# Altium footprint library esp32.PcbLib: 1 footprints
Each footprint in its own frame and in the unit in brackets; x right, y up, seen from the top. Pads: shape width x height; smd on the part's side, far side on the other; paste and mask are expansions set on the pad; w line width, h text height; cw(c..) or ccw(c..) is an arc to the next point about the centre after c.
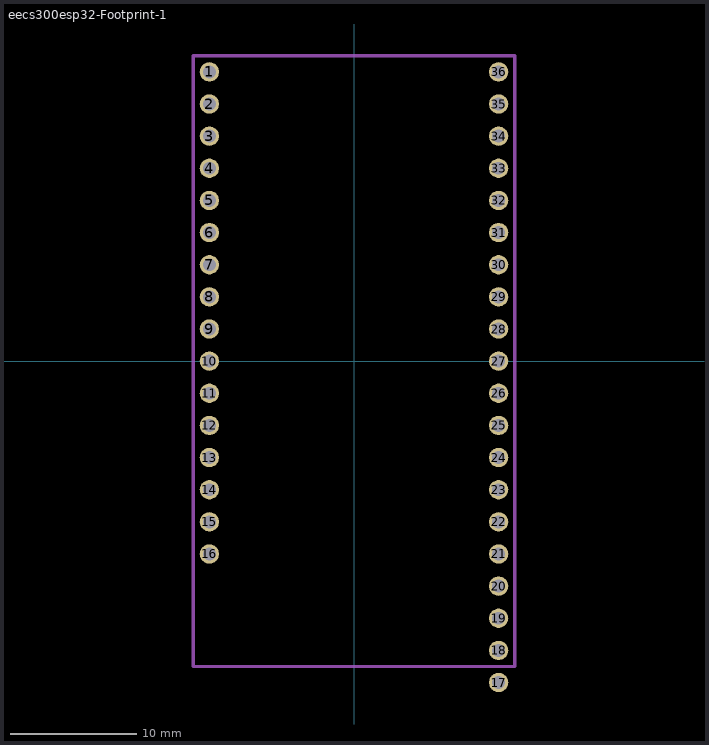
[diagram p0: the footprint, top view; thin cyan lines are the x and y axes]

## eecs300esp32-Footprint-1 [mil]
pads (38):
  round 60 hole 40: 1(-450,900) 2(-450,800) 3(-450,700) 4(-450,600) 5(-450,500) 6(-450,400) 7(-450,300) 8(-450,200) 9(-450,100) 10(-450,0) 11(-450,-100) 12(-450,-200) 13(-450,-300) 14(-450,-400) 15(-450,-500) 16(-450,-600) 17(450,-1000) 18(450,-900) 19(450,-800) 20(450,-700) 21(450,-600) 22(450,-500) 23(450,-400) 24(450,-300) 25(450,-200) 26(450,-100) 27(450,0) 28(450,100) 29(450,200) 30(450,300) 31(450,400) 32(450,500) 33(450,600) 34(450,700) 35(450,800) 36(450,900) ""(-450,-600) ""(450,-600)
Mechanical 1:
  lines w10: -500,-950 500,-950 500,950 -500,950 -500,-950
3D body "HiLetgo ESP32.SLDPRT": height 190, standoff 0, extent -504.99,-954.99 505,945.01